# EAGLE library part MKE04Z8 (library Parts)
MKE04Z8: Kinetis KE04: 48MHz Cortex-M0+ 5V/Robust MCU, 8KB Flash, 1KB SRAM Datasheet <https://www.nxp.com/docs/en/data-sheet/MKE04P24M48SF0.pdf>
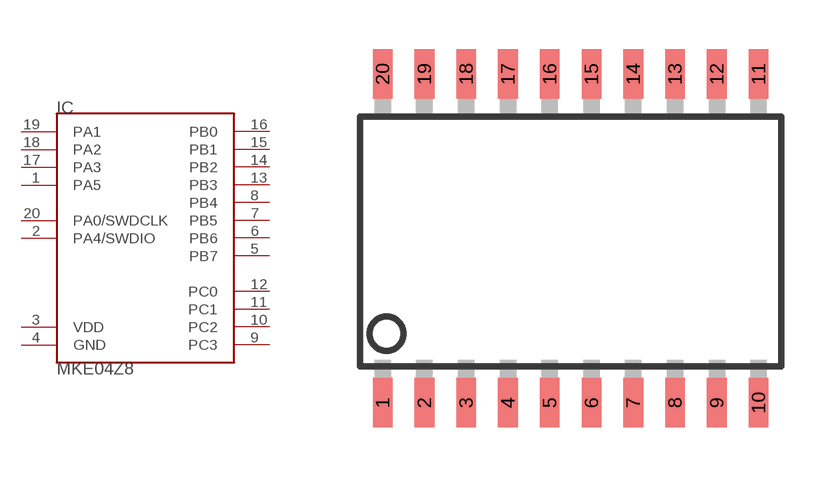
[diagram p12: symbol with the pads of SOIC20S; footprint SOIC20S]

Designator prefix IC

## MKE04Z8SOIC20 (MOUSER: 841-MKE04Z8VWJ4)  [SOIC20S]
1  PA5
2  PA4/SWDIO
3  VDD  pwr
4  GND  pwr
5  PB7
6  PB6
7  PB5
8  PB4
9  PC3
10  PC2
11  PC1
12  PC0
13  PB3
14  PB2
15  PB1
16  PB0
17  PA3
18  PA2
19  PA1
20  PA0/SWDCLK

## Footprint SOIC20S (pad centres in mm)
Wide Plastic Gull Wing Small Outline Package
smd 0.6 x 1.5: 1 -5.715,-5; 2 -4.445,-5; 3 -3.175,-5; 4 -1.905,-5; 5 -0.635,-5; 6 0.635,-5; 7 1.905,-5; 8 3.175,-5; 9 4.445,-5; 10 5.715,-5; 11 5.715,5; 12 4.445,5; 13 3.175,5; 14 1.905,5; 15 0.635,5; 16 -0.635,5; 17 -1.905,5; 18 -3.175,5; 19 -4.445,5; 20 -5.715,5